# EAGLE library part W25Q (library Deegou_IC)
http://www.winbond.com.tw/NR/rdonlyres/EE30B34B-8D95-4519-84F4-428F2515F06D/0/SerialFlashSelectionGuide1112911.pdf
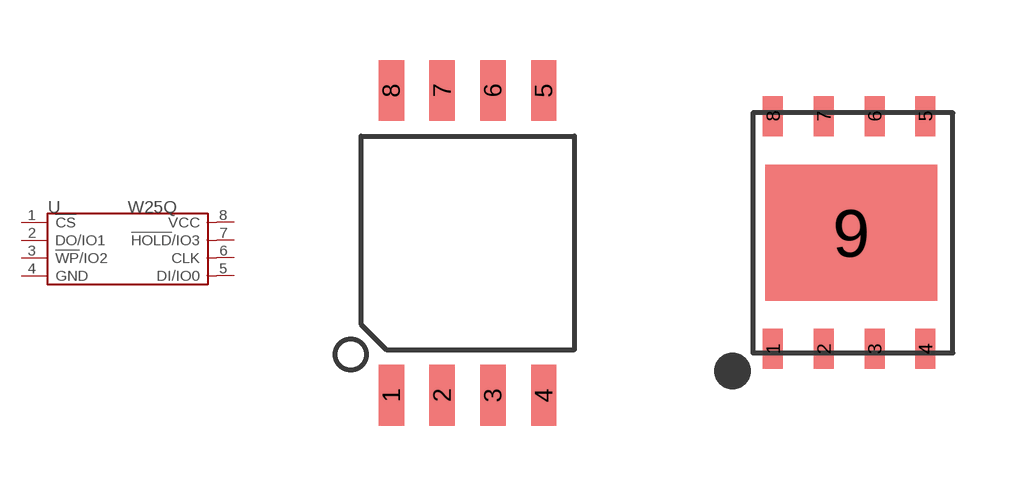
[diagram p150: symbol with the pads of SOIC8-9.1; footprints SOIC8-9.1, WSON8]

Designator prefix U

## W25Q_SOIC8  [SOIC8-9.1]
1  !CS
2  DO/IO1
3  !WP!/IO2
4  GND
5  DI/IO0
6  CLK
7  !HOLD!/IO3
8  VCC

## W25Q6X5  [WSON8]
1  !CS
2  DO/IO1
3  !WP!/IO2
4  GND
5  DI/IO0
6  CLK
7  !HOLD!/IO3
8  VCC
9  GND

## W25Q  [SOIC8-6.0]
Pads as for SOIC8-9.1

## Footprint SOIC8-9.1 (pad centres in mm)
smd 0.635 x 1.524: 1 -1.905,-3.81; 2 -0.635,-3.81; 3 0.635,-3.81; 4 1.905,-3.81; 5 1.905,3.81; 6 0.635,3.81; 7 -0.635,3.81; 8 -1.905,3.81

## Footprint WSON8 (pad centres in mm)
smd 0.5 x 1: 1 -2,-2.9; 2 -0.73,-2.9; 3 0.54,-2.9; 4 1.81,-2.9; 5 1.81,2.92; 6 0.54,2.92; 7 -0.73,2.92; 8 -2,2.92
smd 4.3 x 3.4: 9 -0.036,-0.003

## Footprint SOIC8-6.0 (pad centres in mm)
smd 0.6 x 1.2: 1 -1.905,-2.8; 2 -0.635,-2.8; 3 0.635,-2.8; 4 1.905,-2.8; 5 1.905,2.8; 6 0.635,2.8; 7 -0.635,2.8; 8 -1.905,2.8